# Altium schematic symbol library SM3ZS067U410-NUT1-R1200.SchLib: 1 symbol
Pins are listed as number, name and electrical type; pins without a type are passive.

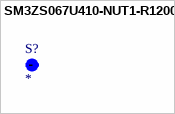
[diagram p0: symbol SM3ZS067U410-NUT1-R1200]

## SM3ZS067U410-NUT1-R1200
designator S?
Value: *
pins: 1, 2, 3, 4